# Altium integrated library KSS_4_GPS.IntLib: 9 symbols
Pins are listed as number, name and electrical type; pins without a type are passive.

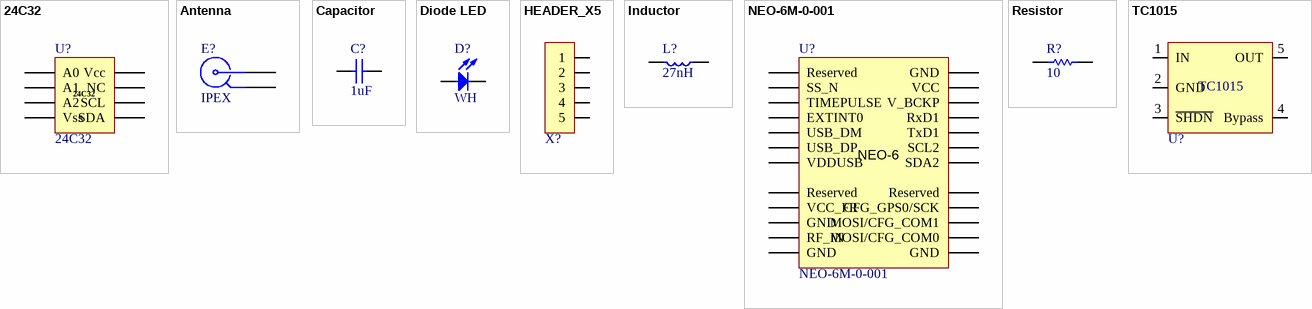
[diagram p0: symbols 24C32 to TC1015]

## 24C32
designator U?
Smart Serial EEPROM I2C
footprint TSSOP-8
pins: 1 A0, 2 A1, 3 A2, 4 Vss, 5 SDA, 6 SCL, 7 NC, 8 Vcc

## Antenna
designator E?, comment IPEX
footprint IPEX
pins: 1, 2

## Capacitor
designator C?  Capacitance: 1uF  (hidden comment: Capacitor)
footprint CAP_0603
footprint CAP_0805
footprint CAP_1206
pins: 1, 2

## Diode LED
designator D?, comment WH
footprint LED_1206
footprint LED_0603
footprint LED_SUPERFLUX_7.62x7.62
footprint LED_1206_DLC
footprint LED_GREEN_3mm
footprint LED_RED_3mm
footprint LED_YELLOW_3mm
footprint LED_0805
pins: 1 A, 2 K

## HEADER_X5
designator X?  (value not drawn)
footprint HEADER_1X5_F
footprint HEADER_1X5_M
pins: 1, 2, 3, 4, 5

## Inductor
designator L?  Inductance: 27nH  (hidden comment: Inductor)
footprint IND_0603
footprint DTPU047A5 (Inductor 25x12 mm)
footprint IND_0805
pins: 1, 2

## NEO-6M-0-001
designator U?
GPS module
footprint NEO-6M-0-001
pins: 1 Reserved, 2 SS_N, 3 TIMEPULSE, 4 EXTINT0, 5 USB_DM, 6 USB_DP, 7 VDDUSB, 8 Reserved, 9 VCC_FR, 10 GND, 11 RF_IN, 12 GND, 13 GND, 14 MOSI/CFG_COM0, 15 MOSI/CFG_COM1, 16 CFG_GPS0/SCK, 17 Reserved, 18 SDA2, 19 SCL2, 20 TxD1, 21 RxD1, 22 V_BCKP, 23 VCC, 24 GND
text: NEO-6

## Resistor
designator R?  Resistance: 10  (hidden comment: Resistor)
footprint RES_0603
footprint RES_0805
footprint RES_1206
pins: 1, 2

## TC1015
designator U?  (value not drawn)
footprint SOT23_5_PIN
pins: 1 IN, 2 GND, 3 ~{SHDN}, 4 Bypass, 5 OUT